# EAGLE library part PLCC-44C (library Serieller Grafikchip - EAIC202)
EA IC202 High Level Grafikkontroller TECHNISCHE DATEN * FÜR LC GRAFIKDISPLAYS 128x64 MIT HD 61202 ODER KOMPATIBEL * KEINE TIMINGPROBLEME BEI SCHNELLEM BUSSYSTEM * PROGRAMMIERUNG ÜBER DIVERSE EINGEBAUTE GRAFIKFUNKTIONEN: * GERADE, PUNKT, BEREICH, UND/ODER/EXOR, BARGRAPH, FÜLLMUSTER... * 3 VERSCHIEDENE FONTS INTEGRIERT * ZOOM FUNKTION ALLER FONTS (2-, 3- UND 4-FACH) * 4-16 FREI DEFINIERBARE ZEICHEN (JE NACH GRÖßE) * TEXT UND GRAFIK MISCHEN * ANSTEUERUNG ÜBER RS-232 / CMOS-PEGEL * DIREKTER ANSCHLUß VON MAX232 O.Ä. MÖGLICH * BAUDRATE PROGRAMMIERBAR VON 300 BIS 115.200 BAUD * NUR MAX. 4 EXTERNE BAUTEILE ERFORDERLICH * 8 DIGITALE I/O´S ZUR FREIEN VERWENDUNG * 5V / typ. 12mA IM NORMALBETRIEB (BEI 11,059 MHz) * POWER-SAVE FUNKTION: STROMVERBRAUCH max. 100?A / 5V * HARDWARE CODIERUNG VON BIS ZU 4 ADRESSEN
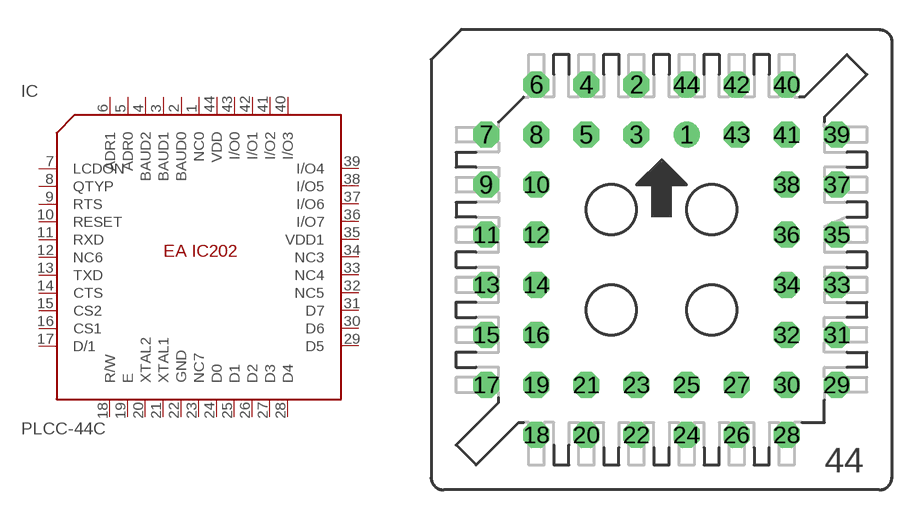
[diagram p0: symbol with the pads of S44; footprint S44]

Designator prefix IC

## PLCC-44CSMD  [S44]
1  NC0
2  BAUD0
3  BAUD1
4  BAUD2
5  ADR0
6  ADR1  pwr
7  LCDON  nc
8  QTYP
9  RTS
10  RESET
11  RXD
12  NC6
13  TXD
14  CTS
15  CS2
16  CS1  in
17  D/1
18  R/W  nc
19  E
20  XTAL2
21  XTAL1
22  GND
23  NC7
24  D0
25  D1
26  D2
27  D3
28  D4  pwr
29  D5  nc
30  D6
31  D7
32  NC5
33  NC4
34  NC3
35  VDD1
36  I/O7
37  I/O6
38  I/O5
39  I/O4
40  I/O3  nc
41  I/O2
42  I/O1
43  I/O0
44  VDD

## Footprint S44 (pad centres in mm)
PLCC SOCKET
drill 0.813: 1 1.27,6.35
drill 0.813 octagon: 2 -1.27,8.89; 3 -1.27,6.35; 4 -3.81,8.89; 5 -3.81,6.35; 6 -6.35,8.89; 7 -8.89,6.35; 8 -6.35,6.35; 9 -8.89,3.81; 10 -6.35,3.81; 11 -8.89,1.27; 12 -6.35,1.27; 13 -8.89,-1.27; 14 -6.35,-1.27; 15 -8.89,-3.81; 16 -6.35,-3.81; 17 -8.89,-6.35; 18 -6.35,-8.89; 19 -6.35,-6.35; 20 -3.81,-8.89; 21 -3.81,-6.35; 22 -1.27,-8.89; 23 -1.27,-6.35; 24 1.27,-8.89; 25 1.27,-6.35; 26 3.81,-8.89; 27 3.81,-6.35; 28 6.35,-8.89; 29 8.89,-6.35; 30 6.35,-6.35; 31 8.89,-3.81; 32 6.35,-3.81; 33 8.89,-1.27; 34 6.35,-1.27; 35 8.89,1.27; 36 6.35,1.27; 37 8.89,3.81; 38 6.35,3.81; 39 8.89,6.35; 40 6.35,8.89; 41 6.35,6.35; 42 3.81,8.89; 43 3.81,6.35; 44 1.27,8.89